# Altium integrated library 1818216.IntLib: 1 symbol
Pins are listed as number, name and electrical type; pins without a type are passive.

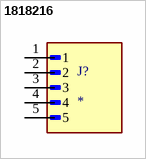
[diagram p0: symbol 1818216]

## 1818216
designator J?
MF: {'manufacturer': u'Phoenix Contact'}; MP: 1818216; Package: None; Price: None; Value: *; Availability: Unavailable
footprint PHOENIX_1818216
pins: 1, 2, 3, 4, 5